# EAGLE library part MOSFET-DUAL-PCHANNEL (library pixhawk2)
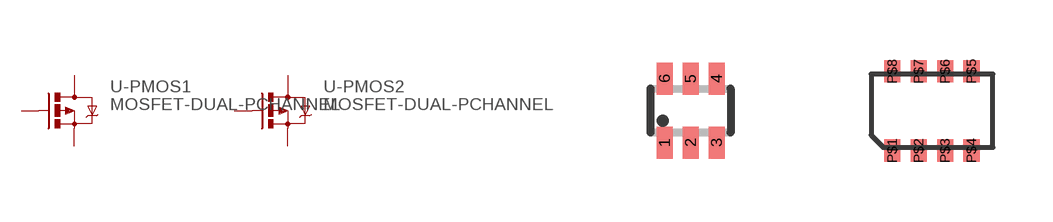
[diagram p60: symbol with the pads of SOT363_PHILIPS; footprints SOT363_PHILIPS, 1206-8]

Designator prefix -; gates -PMOS1=MOSFET-PCHANNEL -PMOS2=MOSFET-PCHANNEL

## MOSFET-DUAL-PCHANNEL-SOT363  [SOT363_PHILIPS]
1  -PMOS2:S  pas
2  -PMOS2:G  pas
3  -PMOS1:D  pas
4  -PMOS1:S  pas
5  -PMOS1:G  pas
6  -PMOS2:D  pas

## MOSFET-DUAL-PCHANNEL-CHIPFET  [1206-8]
P$1  -PMOS1:S  pas
P$2  -PMOS1:G  pas
P$3  -PMOS2:S  pas
P$4  -PMOS2:G  pas
P$5  -PMOS2:D  pas
P$6  -PMOS2:D  pas
P$7  -PMOS1:D  pas
P$8  -PMOS1:D  pas

## Footprint SOT363_PHILIPS (pad centres in mm)
Small Outline Transistor; 6 leads Philips Semiconductors, SOT363.pdf
smd 0.4 x 0.8: 1 -0.65,-0.8; 2 0,-0.8; 3 0.65,-0.8; 4 0.65,0.8; 5 0,0.8; 6 -0.65,0.8

## Footprint 1206-8 (pad centres in mm)
1206-8 ChipFet
smd 0.406 x 0.559: P$1 -0.991,-0.991; P$2 -0.33,-0.991; P$3 0.33,-0.991; P$4 0.991,-0.991; P$5 0.991,0.991; P$6 0.33,0.991; P$7 -0.33,0.991; P$8 -0.991,0.991